# EAGLE library part MAX1693 (library AWJLEagleLib)
MAX1693 or MAX1694 USB over current protection
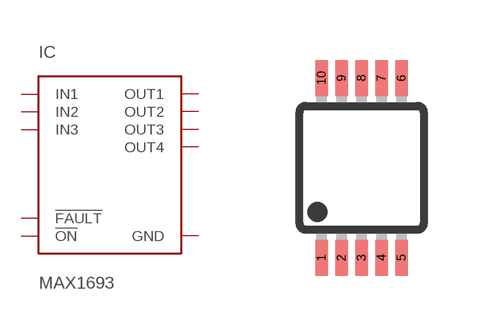
[diagram p9: symbol with the pads of UMAX10; footprint UMAX10]

Designator prefix IC

## MAX1693  [UMAX10]
1  IN1
2  OUT1
3  IN2
4  OUT2
5  !ON
6  GND
7  !FAULT
8  OUT3
9  IN3
10  OUT4

## Footprint UMAX10 (pad centres in mm)
smd 0.32 x 0.9: 1 -1,-2.25; 2 -0.5,-2.25; 3 0,-2.25; 4 0.5,-2.25; 5 1,-2.25; 6 1,2.25; 7 0.5,2.25; 8 0,2.25; 9 -0.5,2.25; 10 -1,2.25